# Altium schematic symbol library 排针.SchLib: 1 symbol
Pins are listed as number, name and electrical type; pins without a type are passive.

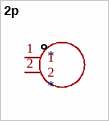
[diagram p0: symbol 2p]

## 2p
designator *
footprint 2p
pins: 1, 2